# Altium footprint library L298P.PcbLib: 3 footprints
Each footprint in its own frame and in the unit in brackets; x right, y up, seen from the top. Pads: shape width x height; smd on the part's side, far side on the other; paste and mask are expansions set on the pad; w line width, h text height; cw(c..) or ccw(c..) is an arc to the next point about the centre after c.
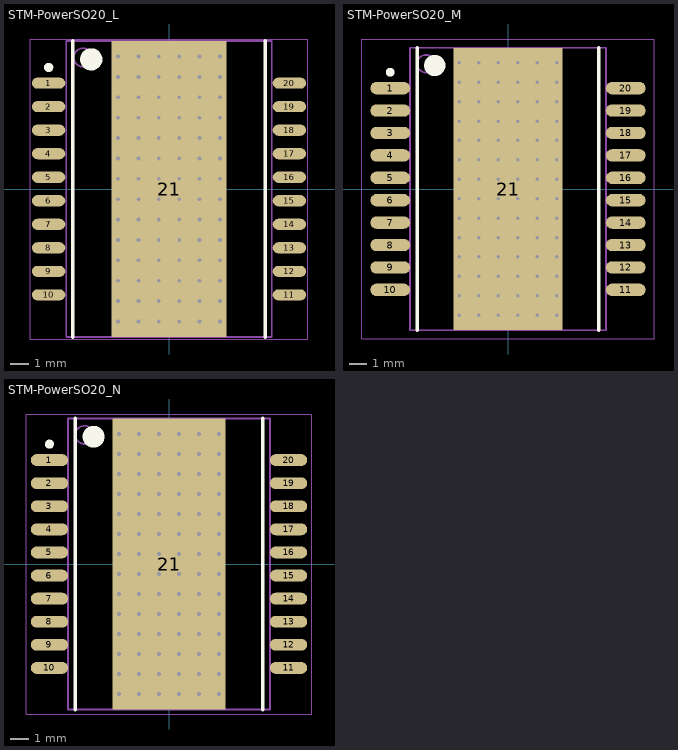
[diagram p0: the footprints below, top view; thin cyan lines are the x and y axes]

## STM-PowerSO20_L [mm] "SOIC, 20-Leads, Body 16x11.1mm, Pitch 1.27mm, Thermal Pad 16x6.2mm, IPC High Density"
height 3.6
pads (21):
  oval 1.8x0.6 smd: 1(-6.5,5.715) 2(-6.5,4.445) 3(-6.5,3.175) 4(-6.5,1.905) 5(-6.5,0.635) 6(-6.5,-0.635) 7(-6.5,-1.905) 8(-6.5,-3.175) 9(-6.5,-4.445) 10(-6.5,-5.715) 11(6.5,-5.715) 12(6.5,-4.445) 13(6.5,-3.175) 14(6.5,-1.905) 15(6.5,-0.635) 16(6.5,0.635) 17(6.5,1.905) 18(6.5,3.175) 19(6.5,4.445) 20(6.5,5.715)
  rect 6.2x16 smd: 21(0,0)
via -2.75,7.15 diameter 0.5 hole 0.2
via -1.65,7.15 diameter 0.5 hole 0.2
via -0.55,7.15 diameter 0.5 hole 0.2
via 0.55,7.15 diameter 0.5 hole 0.2
via 1.65,7.15 diameter 0.5 hole 0.2
via 2.75,7.15 diameter 0.5 hole 0.2
via -2.75,6.05 diameter 0.5 hole 0.2
via -1.65,6.05 diameter 0.5 hole 0.2
via -0.55,6.05 diameter 0.5 hole 0.2
via 0.55,6.05 diameter 0.5 hole 0.2
via 1.65,6.05 diameter 0.5 hole 0.2
via 2.75,6.05 diameter 0.5 hole 0.2
via -2.75,4.95 diameter 0.5 hole 0.2
via -1.65,4.95 diameter 0.5 hole 0.2
via -0.55,4.95 diameter 0.5 hole 0.2
via 0.55,4.95 diameter 0.5 hole 0.2
via 1.65,4.95 diameter 0.5 hole 0.2
via 2.75,4.95 diameter 0.5 hole 0.2
via -2.75,3.85 diameter 0.5 hole 0.2
via -1.65,3.85 diameter 0.5 hole 0.2
via -0.55,3.85 diameter 0.5 hole 0.2
via 0.55,3.85 diameter 0.5 hole 0.2
via 1.65,3.85 diameter 0.5 hole 0.2
via 2.75,3.85 diameter 0.5 hole 0.2
via -2.75,2.75 diameter 0.5 hole 0.2
via -1.65,2.75 diameter 0.5 hole 0.2
via -0.55,2.75 diameter 0.5 hole 0.2
via 0.55,2.75 diameter 0.5 hole 0.2
via 1.65,2.75 diameter 0.5 hole 0.2
via 2.75,2.75 diameter 0.5 hole 0.2
via -2.75,1.65 diameter 0.5 hole 0.2
via -1.65,1.65 diameter 0.5 hole 0.2
via -0.55,1.65 diameter 0.5 hole 0.2
via 0.55,1.65 diameter 0.5 hole 0.2
via 1.65,1.65 diameter 0.5 hole 0.2
via 2.75,1.65 diameter 0.5 hole 0.2
via -2.75,0.55 diameter 0.5 hole 0.2
via -1.65,0.55 diameter 0.5 hole 0.2
via -0.55,0.55 diameter 0.5 hole 0.2
via 0.55,0.55 diameter 0.5 hole 0.2
via 1.65,0.55 diameter 0.5 hole 0.2
via 2.75,0.55 diameter 0.5 hole 0.2
via -2.75,-0.55 diameter 0.5 hole 0.2
via -1.65,-0.55 diameter 0.5 hole 0.2
via -0.55,-0.55 diameter 0.5 hole 0.2
via 0.55,-0.55 diameter 0.5 hole 0.2
via 1.65,-0.55 diameter 0.5 hole 0.2
via 2.75,-0.55 diameter 0.5 hole 0.2
via -2.75,-1.65 diameter 0.5 hole 0.2
via -1.65,-1.65 diameter 0.5 hole 0.2
via -0.55,-1.65 diameter 0.5 hole 0.2
via 0.55,-1.65 diameter 0.5 hole 0.2
via 1.65,-1.65 diameter 0.5 hole 0.2
via 2.75,-1.65 diameter 0.5 hole 0.2
via -2.75,-2.75 diameter 0.5 hole 0.2
via -1.65,-2.75 diameter 0.5 hole 0.2
via -0.55,-2.75 diameter 0.5 hole 0.2
via 0.55,-2.75 diameter 0.5 hole 0.2
via 1.65,-2.75 diameter 0.5 hole 0.2
via 2.75,-2.75 diameter 0.5 hole 0.2
via -2.75,-3.85 diameter 0.5 hole 0.2
via -1.65,-3.85 diameter 0.5 hole 0.2
via -0.55,-3.85 diameter 0.5 hole 0.2
via 0.55,-3.85 diameter 0.5 hole 0.2
via 1.65,-3.85 diameter 0.5 hole 0.2
via 2.75,-3.85 diameter 0.5 hole 0.2
via -2.75,-4.95 diameter 0.5 hole 0.2
via -1.65,-4.95 diameter 0.5 hole 0.2
via -0.55,-4.95 diameter 0.5 hole 0.2
via 0.55,-4.95 diameter 0.5 hole 0.2
via 1.65,-4.95 diameter 0.5 hole 0.2
via 2.75,-4.95 diameter 0.5 hole 0.2
via -2.75,-6.05 diameter 0.5 hole 0.2
via -1.65,-6.05 diameter 0.5 hole 0.2
via -0.55,-6.05 diameter 0.5 hole 0.2
via 0.55,-6.05 diameter 0.5 hole 0.2
via 1.65,-6.05 diameter 0.5 hole 0.2
via 2.75,-6.05 diameter 0.5 hole 0.2
via -2.75,-7.15 diameter 0.5 hole 0.2
via -1.65,-7.15 diameter 0.5 hole 0.2
via -0.55,-7.15 diameter 0.5 hole 0.2
via 0.55,-7.15 diameter 0.5 hole 0.2
via 1.65,-7.15 diameter 0.5 hole 0.2
via 2.75,-7.15 diameter 0.5 hole 0.2
Top Overlay:
  circle w0.25: c-6.5,6.565 r0.125
  circle w0.6: c-4.2,7 r0.3
  lines w0.2: -5.2,-8 -5.2,8 ; 5.2,-8 5.2,8
Mechanical 13:
  circle w0.1: c-4.65,7.1 r0.5
  lines w0.1: -5.55,-8 -5.55,8 5.55,8 5.55,-8 -5.55,-8
Mechanical 15:
  lines w0.05: -7.5,-8.1 -7.5,8.1 7.5,8.1 7.5,-8.1 -7.5,-8.1
  lines w0.1: -0.5,0 0.5,0 ; 0,-0.5 0,0.5
3D body "SOIC127P1420X360_HS-21L.step": height 3.6, standoff 0, extent -7.1,-8 7.1,8

## STM-PowerSO20_M [mm] "SOIC, 20-Leads, Body 16x11.1mm, Pitch 1.27mm, Thermal Pad 16x6.2mm, IPC Low Density"
height 3.6
pads (21):
  oval 2.25x0.7 smd: 1(-6.675,5.715) 2(-6.675,4.445) 3(-6.675,3.175) 4(-6.675,1.905) 5(-6.675,0.635) 6(-6.675,-0.635) 7(-6.675,-1.905) 8(-6.675,-3.175) 9(-6.675,-4.445) 10(-6.675,-5.715) 11(6.675,-5.715) 12(6.675,-4.445) 13(6.675,-3.175) 14(6.675,-1.905) 15(6.675,-0.635) 16(6.675,0.635) 17(6.675,1.905) 18(6.675,3.175) 19(6.675,4.445) 20(6.675,5.715)
  rect 6.2x16 smd: 21(0,0)
via -2.75,7.15 diameter 0.5 hole 0.2
via -1.65,7.15 diameter 0.5 hole 0.2
via -0.55,7.15 diameter 0.5 hole 0.2
via 0.55,7.15 diameter 0.5 hole 0.2
via 1.65,7.15 diameter 0.5 hole 0.2
via 2.75,7.15 diameter 0.5 hole 0.2
via -2.75,6.05 diameter 0.5 hole 0.2
via -1.65,6.05 diameter 0.5 hole 0.2
via -0.55,6.05 diameter 0.5 hole 0.2
via 0.55,6.05 diameter 0.5 hole 0.2
via 1.65,6.05 diameter 0.5 hole 0.2
via 2.75,6.05 diameter 0.5 hole 0.2
via -2.75,4.95 diameter 0.5 hole 0.2
via -1.65,4.95 diameter 0.5 hole 0.2
via -0.55,4.95 diameter 0.5 hole 0.2
via 0.55,4.95 diameter 0.5 hole 0.2
via 1.65,4.95 diameter 0.5 hole 0.2
via 2.75,4.95 diameter 0.5 hole 0.2
via -2.75,3.85 diameter 0.5 hole 0.2
via -1.65,3.85 diameter 0.5 hole 0.2
via -0.55,3.85 diameter 0.5 hole 0.2
via 0.55,3.85 diameter 0.5 hole 0.2
via 1.65,3.85 diameter 0.5 hole 0.2
via 2.75,3.85 diameter 0.5 hole 0.2
via -2.75,2.75 diameter 0.5 hole 0.2
via -1.65,2.75 diameter 0.5 hole 0.2
via -0.55,2.75 diameter 0.5 hole 0.2
via 0.55,2.75 diameter 0.5 hole 0.2
via 1.65,2.75 diameter 0.5 hole 0.2
via 2.75,2.75 diameter 0.5 hole 0.2
via -2.75,1.65 diameter 0.5 hole 0.2
via -1.65,1.65 diameter 0.5 hole 0.2
via -0.55,1.65 diameter 0.5 hole 0.2
via 0.55,1.65 diameter 0.5 hole 0.2
via 1.65,1.65 diameter 0.5 hole 0.2
via 2.75,1.65 diameter 0.5 hole 0.2
via -2.75,0.55 diameter 0.5 hole 0.2
via -1.65,0.55 diameter 0.5 hole 0.2
via -0.55,0.55 diameter 0.5 hole 0.2
via 0.55,0.55 diameter 0.5 hole 0.2
via 1.65,0.55 diameter 0.5 hole 0.2
via 2.75,0.55 diameter 0.5 hole 0.2
via -2.75,-0.55 diameter 0.5 hole 0.2
via -1.65,-0.55 diameter 0.5 hole 0.2
via -0.55,-0.55 diameter 0.5 hole 0.2
via 0.55,-0.55 diameter 0.5 hole 0.2
via 1.65,-0.55 diameter 0.5 hole 0.2
via 2.75,-0.55 diameter 0.5 hole 0.2
via -2.75,-1.65 diameter 0.5 hole 0.2
via -1.65,-1.65 diameter 0.5 hole 0.2
via -0.55,-1.65 diameter 0.5 hole 0.2
via 0.55,-1.65 diameter 0.5 hole 0.2
via 1.65,-1.65 diameter 0.5 hole 0.2
via 2.75,-1.65 diameter 0.5 hole 0.2
via -2.75,-2.75 diameter 0.5 hole 0.2
via -1.65,-2.75 diameter 0.5 hole 0.2
via -0.55,-2.75 diameter 0.5 hole 0.2
via 0.55,-2.75 diameter 0.5 hole 0.2
via 1.65,-2.75 diameter 0.5 hole 0.2
via 2.75,-2.75 diameter 0.5 hole 0.2
via -2.75,-3.85 diameter 0.5 hole 0.2
via -1.65,-3.85 diameter 0.5 hole 0.2
via -0.55,-3.85 diameter 0.5 hole 0.2
via 0.55,-3.85 diameter 0.5 hole 0.2
via 1.65,-3.85 diameter 0.5 hole 0.2
via 2.75,-3.85 diameter 0.5 hole 0.2
via -2.75,-4.95 diameter 0.5 hole 0.2
via -1.65,-4.95 diameter 0.5 hole 0.2
via -0.55,-4.95 diameter 0.5 hole 0.2
via 0.55,-4.95 diameter 0.5 hole 0.2
via 1.65,-4.95 diameter 0.5 hole 0.2
via 2.75,-4.95 diameter 0.5 hole 0.2
via -2.75,-6.05 diameter 0.5 hole 0.2
via -1.65,-6.05 diameter 0.5 hole 0.2
via -0.55,-6.05 diameter 0.5 hole 0.2
via 0.55,-6.05 diameter 0.5 hole 0.2
via 1.65,-6.05 diameter 0.5 hole 0.2
via 2.75,-6.05 diameter 0.5 hole 0.2
via -2.75,-7.15 diameter 0.5 hole 0.2
via -1.65,-7.15 diameter 0.5 hole 0.2
via -0.55,-7.15 diameter 0.5 hole 0.2
via 0.55,-7.15 diameter 0.5 hole 0.2
via 1.65,-7.15 diameter 0.5 hole 0.2
via 2.75,-7.15 diameter 0.5 hole 0.2
Top Overlay:
  circle w0.25: c-6.675,6.615 r0.125
  circle w0.6: c-4.15,7 r0.3
  lines w0.2: -5.15,-8 -5.15,8 ; 5.15,-8 5.15,8
Mechanical 13:
  circle w0.1: c-4.65,7.1 r0.5
  lines w0.1: -5.55,-8 -5.55,8 5.55,8 5.55,-8 -5.55,-8
Mechanical 15:
  lines w0.05: -8.3,-8.5 -8.3,8.5 8.3,8.5 8.3,-8.5 -8.3,-8.5
  lines w0.1: -0.5,0 0.5,0 ; 0,-0.5 0,0.5
3D body "SOIC127P1420X360_HS-21M.step": height 3.6, standoff 0, extent -7.1,-8 7.1,8

## STM-PowerSO20_N [mm] "SOIC, 20-Leads, Body 16x11.1mm, Pitch 1.27mm, Thermal Pad 16x6.2mm, IPC Medium Density"
height 3.6
pads (21):
  oval 2.05x0.65 smd: 1(-6.575,5.715) 2(-6.575,4.445) 3(-6.575,3.175) 4(-6.575,1.905) 5(-6.575,0.635) 6(-6.575,-0.635) 7(-6.575,-1.905) 8(-6.575,-3.175) 9(-6.575,-4.445) 10(-6.575,-5.715) 11(6.575,-5.715) 12(6.575,-4.445) 13(6.575,-3.175) 14(6.575,-1.905) 15(6.575,-0.635) 16(6.575,0.635) 17(6.575,1.905) 18(6.575,3.175) 19(6.575,4.445) 20(6.575,5.715)
  rect 6.2x16 smd: 21(0,0)
via -2.75,7.15 diameter 0.5 hole 0.2
via -1.65,7.15 diameter 0.5 hole 0.2
via -0.55,7.15 diameter 0.5 hole 0.2
via 0.55,7.15 diameter 0.5 hole 0.2
via 1.65,7.15 diameter 0.5 hole 0.2
via 2.75,7.15 diameter 0.5 hole 0.2
via -2.75,6.05 diameter 0.5 hole 0.2
via -1.65,6.05 diameter 0.5 hole 0.2
via -0.55,6.05 diameter 0.5 hole 0.2
via 0.55,6.05 diameter 0.5 hole 0.2
via 1.65,6.05 diameter 0.5 hole 0.2
via 2.75,6.05 diameter 0.5 hole 0.2
via -2.75,4.95 diameter 0.5 hole 0.2
via -1.65,4.95 diameter 0.5 hole 0.2
via -0.55,4.95 diameter 0.5 hole 0.2
via 0.55,4.95 diameter 0.5 hole 0.2
via 1.65,4.95 diameter 0.5 hole 0.2
via 2.75,4.95 diameter 0.5 hole 0.2
via -2.75,3.85 diameter 0.5 hole 0.2
via -1.65,3.85 diameter 0.5 hole 0.2
via -0.55,3.85 diameter 0.5 hole 0.2
via 0.55,3.85 diameter 0.5 hole 0.2
via 1.65,3.85 diameter 0.5 hole 0.2
via 2.75,3.85 diameter 0.5 hole 0.2
via -2.75,2.75 diameter 0.5 hole 0.2
via -1.65,2.75 diameter 0.5 hole 0.2
via -0.55,2.75 diameter 0.5 hole 0.2
via 0.55,2.75 diameter 0.5 hole 0.2
via 1.65,2.75 diameter 0.5 hole 0.2
via 2.75,2.75 diameter 0.5 hole 0.2
via -2.75,1.65 diameter 0.5 hole 0.2
via -1.65,1.65 diameter 0.5 hole 0.2
via -0.55,1.65 diameter 0.5 hole 0.2
via 0.55,1.65 diameter 0.5 hole 0.2
via 1.65,1.65 diameter 0.5 hole 0.2
via 2.75,1.65 diameter 0.5 hole 0.2
via -2.75,0.55 diameter 0.5 hole 0.2
via -1.65,0.55 diameter 0.5 hole 0.2
via -0.55,0.55 diameter 0.5 hole 0.2
via 0.55,0.55 diameter 0.5 hole 0.2
via 1.65,0.55 diameter 0.5 hole 0.2
via 2.75,0.55 diameter 0.5 hole 0.2
via -2.75,-0.55 diameter 0.5 hole 0.2
via -1.65,-0.55 diameter 0.5 hole 0.2
via -0.55,-0.55 diameter 0.5 hole 0.2
via 0.55,-0.55 diameter 0.5 hole 0.2
via 1.65,-0.55 diameter 0.5 hole 0.2
via 2.75,-0.55 diameter 0.5 hole 0.2
via -2.75,-1.65 diameter 0.5 hole 0.2
via -1.65,-1.65 diameter 0.5 hole 0.2
via -0.55,-1.65 diameter 0.5 hole 0.2
via 0.55,-1.65 diameter 0.5 hole 0.2
via 1.65,-1.65 diameter 0.5 hole 0.2
via 2.75,-1.65 diameter 0.5 hole 0.2
via -2.75,-2.75 diameter 0.5 hole 0.2
via -1.65,-2.75 diameter 0.5 hole 0.2
via -0.55,-2.75 diameter 0.5 hole 0.2
via 0.55,-2.75 diameter 0.5 hole 0.2
via 1.65,-2.75 diameter 0.5 hole 0.2
via 2.75,-2.75 diameter 0.5 hole 0.2
via -2.75,-3.85 diameter 0.5 hole 0.2
via -1.65,-3.85 diameter 0.5 hole 0.2
via -0.55,-3.85 diameter 0.5 hole 0.2
via 0.55,-3.85 diameter 0.5 hole 0.2
via 1.65,-3.85 diameter 0.5 hole 0.2
via 2.75,-3.85 diameter 0.5 hole 0.2
via -2.75,-4.95 diameter 0.5 hole 0.2
via -1.65,-4.95 diameter 0.5 hole 0.2
via -0.55,-4.95 diameter 0.5 hole 0.2
via 0.55,-4.95 diameter 0.5 hole 0.2
via 1.65,-4.95 diameter 0.5 hole 0.2
via 2.75,-4.95 diameter 0.5 hole 0.2
via -2.75,-6.05 diameter 0.5 hole 0.2
via -1.65,-6.05 diameter 0.5 hole 0.2
via -0.55,-6.05 diameter 0.5 hole 0.2
via 0.55,-6.05 diameter 0.5 hole 0.2
via 1.65,-6.05 diameter 0.5 hole 0.2
via 2.75,-6.05 diameter 0.5 hole 0.2
via -2.75,-7.15 diameter 0.5 hole 0.2
via -1.65,-7.15 diameter 0.5 hole 0.2
via -0.55,-7.15 diameter 0.5 hole 0.2
via 0.55,-7.15 diameter 0.5 hole 0.2
via 1.65,-7.15 diameter 0.5 hole 0.2
via 2.75,-7.15 diameter 0.5 hole 0.2
Top Overlay:
  circle w0.25: c-6.575,6.59 r0.125
  circle w0.6: c-4.15,7 r0.3
  lines w0.2: -5.15,-8 -5.15,8 ; 5.15,-8 5.15,8
Mechanical 13:
  circle w0.1: c-4.65,7.1 r0.5
  lines w0.1: -5.55,-8 -5.55,8 5.55,8 5.55,-8 -5.55,-8
Mechanical 15:
  lines w0.05: -7.85,-8.25 -7.85,8.25 7.85,8.25 7.85,-8.25 -7.85,-8.25
  lines w0.1: -0.5,0 0.5,0 ; 0,-0.5 0,0.5
3D body "SOIC127P1420X360_HS-21N.step": height 3.6, standoff 0, extent -7.1,-8 7.1,8